# EAGLE library part AE45275H-750 (library saw-filters-narrowband)
ЦПАР.433561.75-13 Параметр Ед. изм. Нижняя частота Тип. значение Верхняя частота Центральная частота МГц - 750 - Минимальное вносимое затухание дБ - Не более 5 - Частота среза по уровню -2 дБ МГц Не более 745.95 - Не менее 754.05 Частота среза по уровню -40 дБ МГц Не менее 735 - Не более 771 Неравномерность АЧХ дБ - Не более 2 - Групповое время задержки нс - - - Гарантированное затухание дБ - 40 - Температурный диапазон °C -55 22 +85 Материал подложки - - Танталат лития 36 -
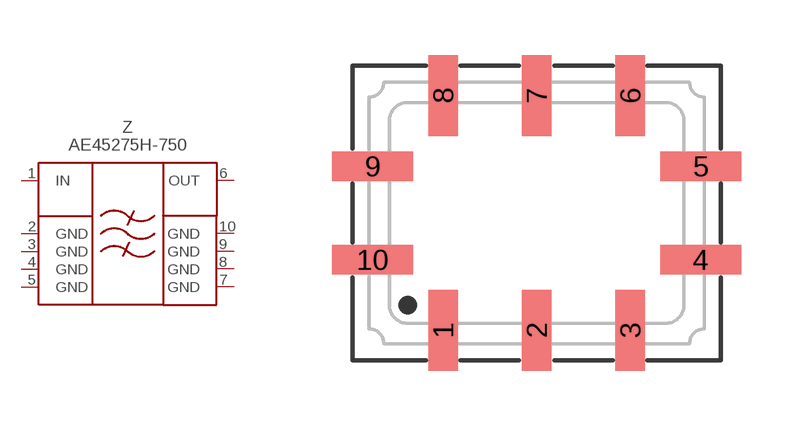
[diagram p145: symbol with the pads of QCC10-1; footprint QCC10-1]

Designator prefix Z

## AE45275H-750  [QCC10-1]
1  IN  in
2  GND  pwr
3  GND  pwr
4  GND  pwr
5  GND  pwr
6  OUT  out
7  GND  pwr
8  GND  pwr
9  GND  pwr
10  GND  pwr

## Footprint QCC10-1 (pad centres in mm)
smd 0.8 x 2.2: 1 -2.54,-3.185; 2 0,-3.185; 3 2.54,-3.185; 6 2.54,3.185; 7 0,3.185; 8 -2.54,3.185
smd 2.2 x 0.8: 4 4.455,-1.27; 5 4.455,1.27; 9 -4.455,1.27; 10 -4.455,-1.27